# Altium footprint library Barsotion_PcbLib.PcbLib: 66 footprints (part 3 of 5)
Each footprint in its own frame and in the unit in brackets; x right, y up, seen from the top. Pads: shape width x height; smd on the part's side, far side on the other; paste and mask are expansions set on the pad; w line width, h text height; cw(c..) or ccw(c..) is an arc to the next point about the centre after c.
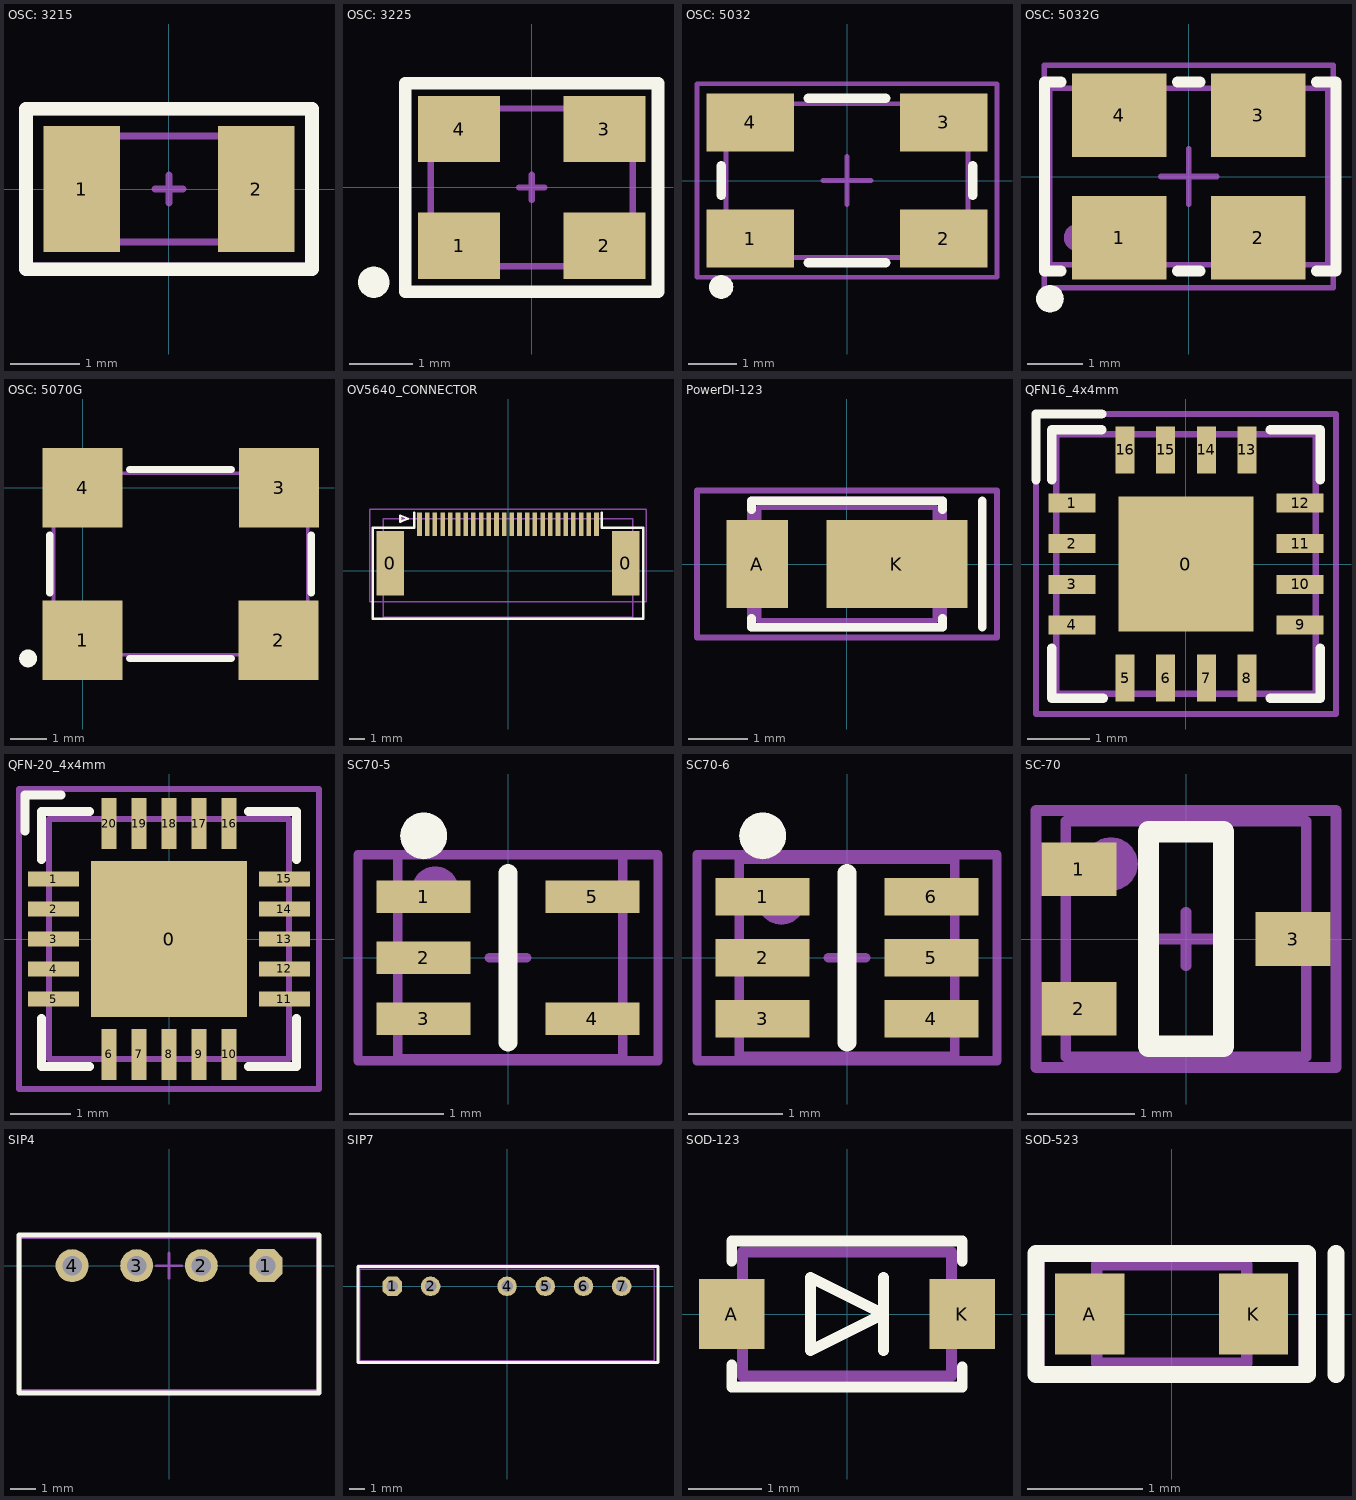
[diagram p2: the footprints below, top view; thin cyan lines are the x and y axes]

## OSC: 3215 [mm]
pads (2):
  rect 1.1x1.8 smd: 1(-1.25,0) 2(1.25,0)
Top Overlay:
  lines w0.2: -2.05,-1.15 -2.05,1.15 2.05,1.15 2.05,-1.15 -2.05,-1.15
Mechanical 1:
  lines w0.1: -1.61,-0.76 1.61,-0.76 1.61,0.76 -1.61,0.76 -1.61,-0.76
Mechanical 15:
  lines w0.1: -0.2,0 0.2,0 ; 0,-0.2 0,0.2 ; -2.05,-1.1 -2.05,1.1 2.05,1.1 2.05,-1.1 -2.05,-1.1
3D body "User Library-ABS07.STEP": height 0.91, standoff 0, extent -1.61,-0.76 1.61,0.76

## OSC: 3225 [mm]
height 0.55
pads (5):
  rect 1.3x1.05 smd: 1(-1.15,-0.925) 2(1.15,-0.925) 3(1.15,0.925) 4(-1.15,0.925)
  round 0.5 on Top Overlay: ""(-2.5,-1.5)
Top Overlay:
  lines w0.2: -2,-1.65 2,-1.65 2,1.65 -2,1.65 -2,-1.65
Mechanical 1:
  lines w0.1: -1.6,-1.25 -1.6,1.25 1.6,1.25 1.6,-1.25 -1.6,-1.25
Mechanical 15:
  lines w0.1: -0.2,0 0.2,0 ; 0,-0.2 0,0.2 ; -2,-1.7 -2,1.7 2,1.7 2,1.6 2,-1.7 -2,-1.7
3D body "User Library-User Library-Siward_SX3225.step": height 0.81, standoff 0, extent -1.6,-1.25 1.6,1.25

## OSC: 5032 [mm]
pads (6):
  rect 1.8x1.2 smd: 1(-2,-1.2) 2(2,-1.2) 3(2,1.2) 4(-2,1.2)
  round 0.5 on Top Overlay: ""(-2.6,-2.2)
  round 0.5 on Mech1: ""(-2,-1.1)
Top Overlay:
  lines w0.2: -2.6,-0.3 -2.6,0.3 ; -0.8,-1.7 0.8,-1.7 ; -0.8,1.7 0.8,1.7 ; 2.6,-0.3 2.6,0.3
Mechanical 1:
  lines w0.1: -2.5,-1.587 2.5,-1.587 2.5,1.587 -2.5,1.587 -2.5,-1.587
Mechanical 15:
  lines w0.1: -0.5,0 0.5,0 ; 0,-0.5 0,0.5 ; -3.1,-2 3.1,-2 3.1,2 -3.1,2 -3.1,-2
3D body "ABM3B.STEP": height 1.1, standoff -0.01, extent -2.5,-1.587 2.5,1.587

## OSC: 5032G [mm]
pads (6):
  rect 1.7x1.5 smd: 1(-1.25,-1.1) 2(1.25,-1.1) 3(1.25,1.1) 4(-1.25,1.1)
  round 0.5 on Top Overlay: ""(-2.5,-2.2)
  round 0.5 on Mech1: ""(-2,-1.1)
Top Overlay:
  lines w0.2: -2.3,-1.7 -2.6,-1.7 -2.6,1.7 -2.3,1.7 ; -0.2,-1.7 0.2,-1.7 ; -0.2,1.7 0.2,1.7 ; 2.3,-1.7 2.65,-1.7 2.65,1.7 2.3,1.7
Mechanical 1:
  lines w0.1: -2.5,-1.587 2.5,-1.587 2.5,1.587 -2.5,1.587 -2.5,-1.587
Mechanical 15:
  lines w0.1: -0.5,0 0.5,0 ; 0,-0.5 0,0.5 ; -2.6,-2 2.6,-2 2.6,2 -2.6,2 -2.6,-2
3D body "User Library-ASFL1.STEP": height 1.38, standoff 0.06, extent -2.473,-1.6 2.527,1.6

## OSC: 5070G [mm]
pads (5):
  rect 2.2x2.2 smd: 1(0,-4.2) 2(5.4,-4.2) 3(5.41,0) 4(0,0)
  round 0.5 on Top Overlay: ""(-1.5,-4.7)
Top Overlay:
  lines w0.2: -0.9,-2.9 -0.9,-1.3 ; 1.3,-4.7 4.1,-4.7 ; 1.3,0.5 4.1,0.5 ; 6.3,-2.9 6.3,-1.3
Mechanical 1:
  lines w0.1: -0.8,-4.6 -0.8,0.4 6.2,0.4 6.2,-4.6 -0.8,-4.6
3D body "User Library-50 MHz.STEP": height 1.51, standoff -0.01, extent -0.8,-4.6 6.2,0.4

## OV5640_CONNECTOR [mm]
pads (26):
  rect 1.8x4.2 smd mask+0.05: 0(-7.65,0.507) 0(7.65,0.507)
  rect 0.3x1.5 smd mask+0.05: 1(-5.75,3.032) 2(-5.25,3.032) 3(-4.75,3.032) 4(-4.25,3.032) 5(-3.75,3.032) 6(-3.25,3.032) 7(-2.75,3.032) 8(-2.25,3.032) 9(-1.75,3.032) 10(-1.25,3.032) 11(-0.75,3.032) 12(-0.25,3.032) 13(0.25,3.032) 14(0.75,3.032) 15(1.25,3.032) 16(1.75,3.032) 17(2.25,3.032) 18(2.75,3.032) 19(3.25,3.032) 20(3.75,3.032) 21(4.25,3.032) 22(4.75,3.032) 23(5.25,3.032) 24(5.75,3.032)
Top Overlay:
  lines w0.15: -6.1,3.8 -6.1,2.8 -8.8,2.8 -8.8,-3.1 8.8,-3.1 8.8,2.8 6.1,2.8 6.1,3.8 ; -7,3.2 -6.5,3.4 -7,3.6 -7,3.2
Mechanical 13:
  lines w0.1: -8.1,-3 8.1,-3 8.1,3.4 -8.1,3.4 -8.1,-3
Mechanical 15:
  lines w0.1: -9,-2 9,-2 9,4 -9,4 -9,-2
3D body "Hirose_FH12-24S-0.5SH_1x24-1MP_P0.50mm_Horizontal.step": height 2, standoff 0, extent -8.05,-3 8.05,3.4

## PowerDI-123 [mm]
pads (2):
  rect 1.05x1.5 smd: A(-1.525,0)
  rect 2.4x1.5 smd: K(0.85,0)
Top Overlay:
  lines w0.15: -1.625,-0.925 -1.625,-1.075 1.625,-1.075 1.625,-0.925 ; -1.625,0.925 -1.625,1.075 1.625,1.075 1.625,0.925 ; 2.3,-1.075 2.3,1.075
Mechanical 13:
  lines w0.1: -1.5,-0.965 1.5,-0.965 1.5,0.965 -1.5,0.965 -1.5,-0.965
  lines w0.15: -1.625,-1.075 1.625,-1.075 1.625,1.075 -1.625,1.075 -1.625,-1.075
Mechanical 15:
  lines w0.1: -2.55,-1.25 2.55,-1.25 2.55,1.25 -2.55,1.25 -2.55,-1.25
3D body "D_PowerDI-123.step": height 1, standoff 0, extent -1.95,-0.965 1.95,0.965

## QFN16_4x4mm [mm]
pads (17):
  rect 2.16x2.16 smd mask+0.05: 0(0,0)
  rect 0.75x0.305 smd mask+0.05: 1(-1.825,0.975) 2(-1.825,0.325) 3(-1.825,-0.325) 4(-1.825,-0.975) 9(1.825,-0.975) 10(1.825,-0.325) 11(1.825,0.325) 12(1.825,0.975)
  rect 0.305x0.75 smd mask+0.05: 5(-0.975,-1.825) 6(-0.325,-1.825) 7(0.325,-1.825) 8(0.975,-1.825) 13(0.975,1.825) 14(0.325,1.825) 15(-0.325,1.825) 16(-0.975,1.825)
Top Overlay:
  lines w0.15: -2.4,1.35 -2.4,2.4 -1.35,2.4 ; -2.15,-1.35 -2.15,-2.15 -1.325,-2.15 ; -2.15,1.35 -2.15,2.15 -1.35,2.15 ; 1.35,-2.15 2.15,-2.15 2.15,-1.35 ; 1.35,2.15 2.15,2.15 2.15,1.35
Mechanical 13:
  lines w0.1: -2.075,-2.075 2.075,-2.075 2.075,2.075 -2.075,2.075 -2.075,-2.075
Mechanical 15:
  lines w0.1: -2.4,-2.4 2.4,-2.4 2.4,2.4 -2.4,2.4 -2.4,-2.4
3D body "QFN-16-1EP_4x4mm_P0.65mm_EP2.1x2.1mm.step": height 0.75, standoff 0, extent -2,-2 2,2

## QFN-20_4x4mm [mm]
pads (21):
  rect 2.6x2.6 smd mask+0.05: 0(0,0)
  rect 0.85x0.25 smd mask+0.05: 1(-1.925,1) 2(-1.925,0.5) 3(-1.925,0) 4(-1.925,-0.5) 5(-1.925,-1) 11(1.925,-1) 12(1.925,-0.5) 13(1.925,0) 14(1.925,0.5) 15(1.925,1)
  rect 0.25x0.85 smd mask+0.05: 6(-1,-1.925) 7(-0.5,-1.925) 8(0,-1.925) 9(0.5,-1.925) 10(1,-1.925) 16(1,1.925) 17(0.5,1.925) 18(0,1.925) 19(-0.5,1.925) 20(-1,1.925)
Top Overlay:
  lines w0.15: -2.4,1.8 -2.4,2.4 -1.8,2.4 ; -2.125,-1.325 -2.125,-2.125 -1.325,-2.125 ; -2.125,1.325 -2.125,2.125 -1.325,2.125 ; 1.325,-2.125 2.125,-2.125 2.125,-1.325 ; 1.325,2.125 2.125,2.125 2.125,1.325
Mechanical 1:
  lines w0.1: -2,-2 2,-2 2,2 -2,2 -2,-2
Mechanical 15:
  lines w0.1: -2.5,-2.5 2.5,-2.5 2.5,2.5 -2.5,2.5 -2.5,-2.5
3D body "QFN-20-1EP_4x4mm_P0.5mm_EP2.5x2.5mm.step": height 0.77, standoff 0, extent -2,-2 2,2

## SC70-5 [mm] "pitch 0.95 mm"
height 1.45
pads (7):
  rect 1x0.35 smd: 1(-0.9,0.65) 2(-0.9,0) 3(-0.9,-0.65) 4(0.9,-0.65) 5(0.9,0.65)
  round 0.5 on Top Overlay: ""(-0.9,1.3)
  round 0.5 on Mech1: ""(-0.775,0.725)
Top Overlay:
  lines w0.2: 0,-0.9 0,0.9
Mechanical 1:
  lines w0.1: -1.175,-1.075 -1.175,1.1 1.225,1.1 1.225,-1.075 -1.175,-1.075
Mechanical 15:
  lines w0.1: -0.2,0 0.2,0 ; 0,-0.2 0,0.2 ; -1.6,-1.1 1.6,-1.1 1.6,1.1 -1.6,1.1 -1.6,-1.1
3D body "User Library-SC70-5-MAX.STEP": height 1.09, standoff -0.01, extent -1.175,-1.1 1.225,1.1

## SC70-6 [mm] "SOT23, 5-Leads, Body 2,90x2,80mm, Pitch 0,95mm, IPC Medium Density"
height 1.45
pads (8):
  rect 1x0.4 smd: 1(-0.9,0.65) 2(-0.9,0) 3(-0.9,-0.65) 4(0.9,-0.65) 5(0.9,0) 6(0.9,0.65)
  round 0.5 on Top Overlay: ""(-0.9,1.3)
  round 0.5 on Mech1: ""(-0.7,0.6)
Top Overlay:
  lines w0.2: 0,-0.9 0,0.9
Mechanical 1:
  lines w0.1: -1.15,-1.05 1.15,-1.05 1.15,1.05 -1.15,1.05 -1.15,-1.05
Mechanical 15:
  lines w0.1: -0.2,0 0.2,0 ; 0,-0.2 0,0.2 ; -1.6,-1.1 -1.6,1.1 1.6,1.1 1.6,-1.1 -1.6,-1.1
3D body "User Library-sot363.STEP": height 1, standoff 0, extent -1.15,-1.05 1.15,1.05

## SC-70 [mm]
pads (4):
  rect 0.7x0.5 smd: 1(-1,0.65) 2(-1,-0.65) 3(1,0)
  round 0.5 on Mech1: ""(-0.7,0.7)
Top Overlay:
  lines w0.2: -0.35,-1 0.35,-1 0.35,1 -0.35,1 -0.35,-1
Mechanical 1:
  lines w0.1: -1.123,-1.1 1.123,-1.1 1.123,1.1 -1.123,1.1 -1.123,-1.1
Mechanical 15:
  lines w0.1: -0.25,0 0.25,0 ; 0,-0.25 0,0.25 ; -1.4,-1.2 -1.4,1.2 1.4,1.2 1.4,-1.2 -1.4,-1.2
3D body "User Library-SOT323 (SC70-3)-1.STEP": height 1.1, standoff 0, extent -1.123,-1.1 1.123,1.1

## SIP4 [mm]
height 15
pads (4):
  oct 1.3x1.3 hole 0.762: 1(3.81,0)
  round 1.3 hole 0.762: 2(1.27,0) 3(-1.27,0) 4(-3.81,0)
Top Overlay:
  lines w0.2: -5.9,-5 5.9,-5 5.9,1.2 -5.9,1.2 -5.9,-5
Mechanical 1:
  lines w0.1: -5.842,-4.9 5.842,-4.9 5.842,1.1 -5.842,1.1 -5.842,-4.9
Mechanical 15:
  lines w0.1: -0.5,0 0.5,0 ; 0,-0.5 0,0.5 ; -5.9,-5 -5.9,1.2 5.9,1.2 5.9,-5 -5.9,-5
3D body "P6AU.STEP": height 10, standoff -3, extent -5.84,-4.905 5.84,1.095

## SIP7 [mm]
height 15
pads (6):
  oct 1.3x1.3 hole 0.762: 1(-7.62,0)
  round 1.3 hole 0.762: 2(-5.08,0) 4(0,0) 5(2.54,0) 6(5.08,0) 7(7.62,0)
Top Overlay:
  lines w0.2: -9.906,-5.08 -9.906,1.3 10.033,1.3 10.033,-5.08 -9.906,-5.08
Mechanical 1:
  lines w0.1: -9.779,-4.953 -9.779,1.143 9.779,1.143 9.779,-4.953 -9.779,-4.953
Mechanical 15:
  lines w0.1: -0.5,0 0.5,0 ; 0,-0.5 0,0.5 ; -9.906,-5.08 10.033,-5.08 10.033,1.397 -9.906,1.397 -9.906,-5.08
3D body "SIP-7(124567).STEP": height 10, standoff -2.5, extent -9.72,-4.9 9.78,1.15

## SOD-123 [mm] "1N4148"
pads (2):
  rect 0.9x0.95 smd: A(-1.575,0) K(1.575,0)
Top Overlay:
  lines w0.15: -1.575,-1 1.575,-1 1.575,-0.725 ; -1.575,-0.975 -1.575,-0.7 ; -1.575,0.725 -1.575,1 1.575,1 1.575,0.725 ; 0.5,-0.5 0.5,0.5 ; -0.5,-0.5 0.5,0 -0.5,0.5 -0.5,-0.5
Mechanical 1:
  lines w0.15: -1.425,-0.85 -1.425,0.85 1.425,0.85 1.425,-0.85 -1.425,-0.85

## SOD-523 [mm]
pads (2):
  rect 0.6x0.7 smd: A(-0.71,0) K(0.71,0)
Top Overlay:
  lines w0.15: 1.425,-0.525 1.425,0.525 ; -1.175,-0.525 1.175,-0.525 1.175,0.525 -1.175,0.525 -1.175,-0.525
Mechanical 13:
  lines w0.1: -0.65,-0.425 -0.65,0.425 0.65,0.425 0.65,-0.425 -0.65,-0.425
Mechanical 15:
  lines w0.1: -1.15,-0.5 1.15,-0.5 1.15,0.5 -1.15,0.5 -1.15,-0.5
3D body "SOD523-3.STEP": height 0.65, standoff 0, extent -0.825,-0.4 0.825,0.4